# Altium footprint library hsbest.PcbLib: 389 footprints (part 6 of 25)
Each footprint in its own frame and in the unit in brackets; x right, y up, seen from the top. Pads: shape width x height; smd on the part's side, far side on the other; paste and mask are expansions set on the pad; w line width, h text height; cw(c..) or ccw(c..) is an arc to the next point about the centre after c.
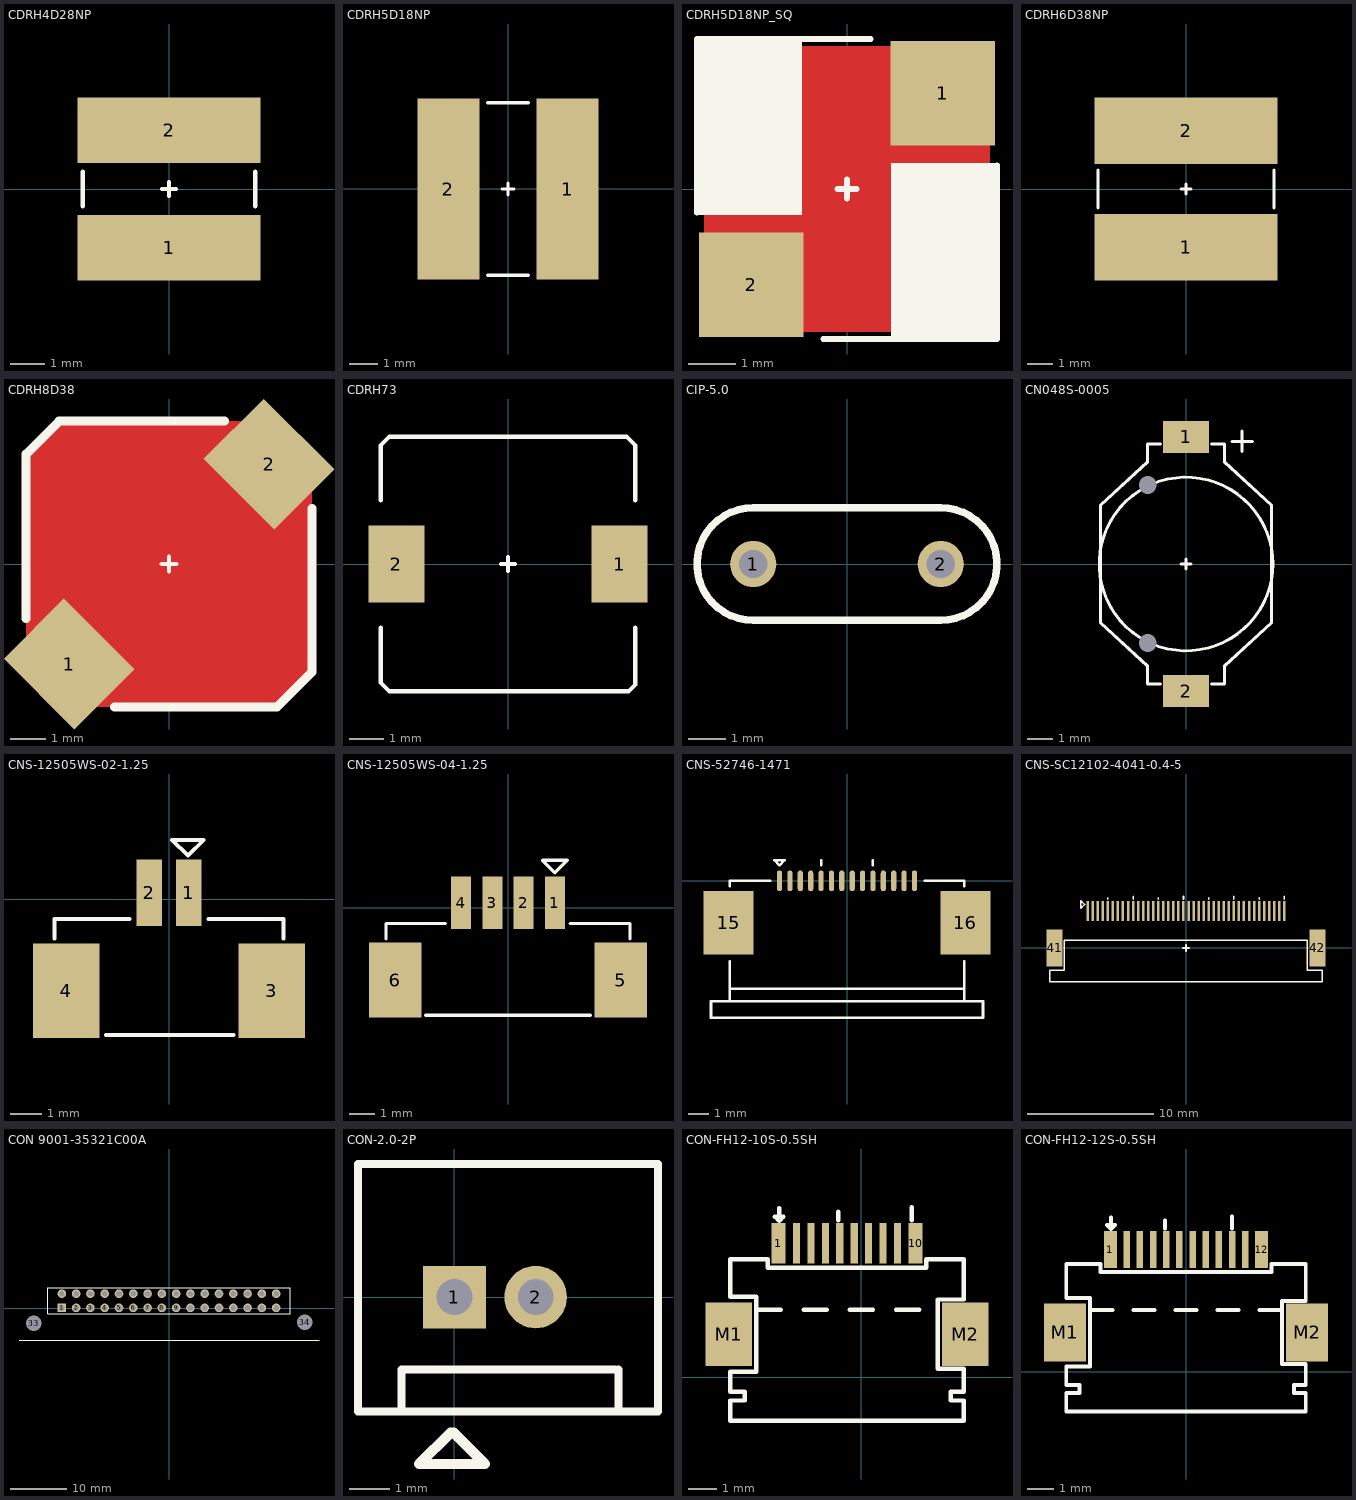
[diagram p5: the footprints below, top view; thin cyan lines are the x and y axes]

## CDRH4D28NP [mm]
pads (2):
  rect 5.3x1.9 smd: 1(0,-1.7) 2(0,1.7)
Top Overlay:
  lines w0.12: -2.5,-0.5 -2.5,0.5 ; -0.2,0 0.2,0 ; 0,-0.2 0,0.2 ; 2.5,-0.5 2.5,0.5

## CDRH5D18NP [mm]
pads (2):
  rect 2.15x6.3 smd: 1(2.075,0) 2(-2.075,0)
Top Overlay:
  lines w0.12: -0.7,-3 0.7,-3 ; -0.7,3 0.7,3 ; -0.2,0 0.2,0 ; 0,-0.2 0,0.2

## CDRH5D18NP_SQ [mm]
pads (2):
  rect 2.2x2.2 smd: 1(2.008,2.008) 2(-2.008,-2.008)
Top Layer:
  pour cut-out: -3,3 -3,-3 3,-3 3,3
Top Overlay:
  rectangle: 0.925,-3.15 3.15,0.55
  rectangle: -3.15,-0.55 -0.95,3.15
  lines w0.12: -3.15,-0.5 -3.15,3.15 0.5,3.15 ; -0.5,-3.15 3.15,-3.15 3.15,0.5 ; -0.2,0 0.2,0 ; 0,-0.2 0,0.2

## CDRH6D38NP [mm]
pads (2):
  rect 7.3x2.65 smd: 1(0,-2.325) 2(0,2.325)
Top Overlay:
  lines w0.12: -3.5,-0.75 -3.5,0.75 ; -0.2,0 0.2,0 ; 0,-0.2 0,0.2 ; 3.5,-0.75 3.5,0.75

## CDRH8D38 [mm]
pads (2):
  rect 2.4x2.8 smd rot 45: 1(-2.8,-2.8) 2(2.8,2.8)
Top Layer:
  pour cut-out: -3.075,4 -4,3.075 -4,-2.3 -2.3,-4 3.025,-4 4,-3.025 4,2.025 2.025,4
Top Overlay:
  lines w0.12: -0.2,0 0.2,0 ; 0,-0.2 0,0.2
  lines w0.254: -4,-1.525 -4,3.075 -3.075,4 1.55,4 ; -1.525,-4 3.025,-4 4,-3.025 4,1.55

## CDRH73 [mm]
pads (2):
  rect 1.6x2.2 smd: 1(3.2,0) 2(-3.2,0)
Top Overlay:
  lines w0.12: -3.65,-1.825 -3.65,-3.4 -3.4,-3.65 3.45,-3.65 3.65,-3.45 3.65,-1.825 ; -3.65,1.825 -3.65,3.4 -3.4,3.65 3.4,3.65 3.65,3.4 3.65,1.825 ; -0.2,0 0.2,0 ; 0,-0.2 0,0.2

## CIP-5.0 [mil]
pads (2):
  round 49.37 hole 30: 1(-100,0) 2(100,0)
Top Overlay:
  lines w7.87: -100,-60 cw(c-100,0) -100,60 100,60 cw(c100,0) 100,-60 -100,-60

## CN048S-0005 [mm]
pads (4):
  rect 1.8x1.25 smd: 1(0,4.975) 2(0,-4.975)
  round 0.1 hole 0.7 unplated: 3(-1.5,3.1) 4(-1.5,-3.1)
Top Overlay:
  circle w0.12: c0,0 r3.4
  lines w0.12: -1,-4.7 -1.5,-4.7 -1.5,-4 -3.35,-2.3 -3.35,2.3 -1.5,4 -1.5,4.7 -1,4.7 ; -0.2,0 0.2,0 ; 0,-0.2 0,0.2 ; 1,-4.7 1.5,-4.7 1.5,-4 3.35,-2.3 3.35,2.3 1.5,4 1.5,4.7 1,4.7 ; 1.8,4.8 2.6,4.8 ; 2.2,4.4 2.2,5.2

## CNS-12505WS-02-1.25 [mm]
pads (4):
  rect 0.8x2.1 smd: 1(0.625,0.2) 2(-0.625,0.2)
  rect 2.1x3 smd: 3(3.25,-2.9) 4(-3.25,-2.9)
Top Overlay:
  lines w0.125: -3.625,-1.25 -3.625,-0.625 -1.25,-0.625 ; -2,-4.3 2.05,-4.3 ; 1.25,-0.625 3.625,-0.625 3.625,-1.25 ; 0.1,1.875 1.1,1.875 0.6,1.375 0.1,1.875

## CNS-12505WS-04-1.25 [mm]
pads (6):
  rect 0.8x2.1 smd: 1(1.875,0.2) 2(0.625,0.2) 3(-0.625,0.2) 4(-1.875,0.2)
  rect 2.1x3 smd: 5(4.5,-2.9) 6(-4.5,-2.9)
Top Overlay:
  lines w0.125: -4.875,-1.25 -4.875,-0.625 -2.5,-0.625 ; -3.3,-4.3 3.3,-4.3 ; 2.475,-0.625 4.875,-0.625 4.875,-1.25 ; 1.375,1.9 1.875,1.4 2.375,1.9 1.375,1.9

## CNS-52746-1471 [mm]
pads (16):
  oval 0.25x1 smd: 1(-3.25,0) 2(-2.75,0) 3(-2.25,0) 4(-1.75,0) 5(-1.25,0) 6(-0.75,0) 7(-0.25,0) 8(0.25,0) 9(0.75,0) 10(1.25,0) 11(1.75,0) 12(2.25,0) 13(2.75,0) 14(3.25,0)
  rect 2.4x3.05 smd: 15(-5.7,-2.025) 16(5.7,-2.025)
Top Overlay:
  lines w0.125: -5.65,-5.8 -5.65,-5.2 -5.65,-3.875 ; -5.65,-0.25 -5.65,0 -3.7,0 ; -5.625,-5.2 5.65,-5.2 ; -1.25,0.75 -1.25,1 ; 1.25,0.75 1.25,1 ; 3.75,0 5.65,0 5.65,-0.25 ; 5.65,-5.8 5.65,-5.2 ; 5.65,-3.875 5.65,-5.2 ; -6.55,-6.6 -6.55,-5.8 6.55,-5.8 6.55,-6.6 -5.8,-6.6 -6.55,-6.6 ; -3.5,1 -3.25,0.75 -3,1 -3.5,1

## CNS-SC12102-4041-0.4-5 [mm]
pads (42):
  rect 0.2x1.6 smd: 1(-7.8,2.925) 2(-7.4,2.925) 3(-7,2.925) 4(-6.6,2.925) 5(-6.2,2.925) 6(-5.8,2.925) 7(-5.4,2.925) 8(-5,2.925) 9(-4.6,2.925) 10(-4.2,2.925) 11(-3.8,2.925) 12(-3.4,2.925) 13(-3,2.925) 14(-2.6,2.925) 15(-2.2,2.925) 16(-1.8,2.925) 17(-1.4,2.925) 18(-1,2.925) 19(-0.6,2.925) 20(-0.2,2.925) 21(0.2,2.925) 22(0.6,2.925) 23(1,2.925) 24(1.4,2.925) 25(1.8,2.925) 26(2.2,2.925) 27(2.6,2.925) 28(3,2.925) 29(3.4,2.925) 30(3.8,2.925) 31(4.2,2.925) 32(4.6,2.925) 33(5,2.925) 34(5.4,2.925) 35(5.8,2.925) 36(6.2,2.925) 37(6.6,2.925) 38(7,2.925) 39(7.4,2.925) 40(7.8,2.925)
  rect 1.25x2.95 smd: 41(-10.425,0) 42(10.425,0)
Top Overlay:
  lines w0.125: -6.2,3.85 -6.2,4 ; -4.2,3.85 -4.2,4.1 ; -2.2,3.85 -2.2,4 ; -0.25,0 0.25,0 ; -0.2,3.85 -0.2,4.1 ; 0,-0.25 0,0.25 ; 1.8,3.85 1.8,4 ; 3.8,3.85 3.8,4.1 ; 5.8,3.85 5.8,4 ; 7.8,3.85 7.8,4.1 ; -10.8,-2.675 -10.8,-1.775 -9.65,-1.775 -9.65,0.625 9.625,0.625 9.625,-1.775 10.8,-1.775 10.8,-2.675 -10.8,-2.675 ; -8.35,3.15 -8.35,3.75 -8.05,3.45 -8.35,3.15

## CON 9001-35321C00A [mil]
pads (34):
  rect 60x60 hole 40: 1(-751.57,3.35)
  round 60 hole 40: 2(-651.57,3.35) 3(-551.57,3.35) 4(-451.57,3.35) 5(-351.57,3.35) 6(-251.57,3.35) 7(-151.57,3.35) 8(-51.57,3.35) 9(48.43,3.35) 10(148.43,3.35) 11(248.43,3.35) 12(348.43,3.35) 13(448.43,3.35) 14(548.43,3.35) 15(648.43,3.35) 16(748.43,3.35) 17(-751.57,103.35) 18(-651.57,103.35) 19(-551.57,103.35) 20(-451.57,103.35) 21(-351.57,103.35) 22(-251.57,103.35) 23(-151.57,103.35) 24(-51.57,103.35) 25(48.43,103.35) 26(148.43,103.35) 27(248.43,103.35) 28(348.43,103.35) 29(448.43,103.35) 30(548.43,103.35) 31(648.43,103.35) 32(748.43,103.35)
  round 98.43 hole 110.24 unplated: 33(-948.43,-103.35) 34(948.43,-96.65)
Top Overlay:
  lines w5: -1051.57,-221.46 1048.43,-221.46 ; -851.57,-36.02 -851.57,142.72 848.43,142.72 848.43,-36.02 -851.57,-36.02

## CON-2.0-2P [mm]
pads (2):
  rect 1.54x1.54 hole 0.88: 1(0.002,0)
  round 1.54 hole 0.88: 2(2,0)
Top Overlay:
  lines w0.2: -1.3,-2.771 -1.3,-1.78 3.95,-1.78 ; 4.039,-2.754 4.039,-1.78 ; 5,-2.821 -2.375,-2.821 -2.375,3.275 5.013,3.275 5.013,-2.821
  lines w0.254: -0.094,-3.34 -0.864,-4.11 0.744,-4.11 -0.02,-3.345

## CON-FH12-10S-0.5SH [mm]
pads (12):
  rect 0.5x1.4 smd: 1(-2.875,4.65) 10(1.875,4.65)
  rect 0.25x1.4 smd: 2(-2.25,4.65) 3(-1.75,4.65) 4(-1.25,4.65) 5(-0.75,4.65) 6(-0.25,4.65) 7(0.25,4.65) 8(0.75,4.65) 9(1.25,4.65)
  rect 1.6x2.2 smd: M1(-4.6,1.5) M2(3.6,1.5)
Top Overlay:
  lines w0.15: -3.6,2.35 -2.8,2.35 ; -3.25,3.8 -3.25,4.1 -4.55,4.1 -4.55,2.8 -3.65,2.8 -3.65,0.2 -4.55,0.2 -4.55,-0.5 -4.05,-0.5 -4.05,-0.8 -4.55,-0.8 -4.55,-1.5 3.55,-1.5 3.55,-0.8 3.1,-0.8 3.1,-0.5 3.55,-0.5 3.55,0.3 2.65,0.3 2.65,2.7 3.55,2.7 3.55,4.1 2.25,4.1 2.25,3.8 -3.225,3.8 ; -2.85,5.875 -2.85,5.425 ; -2,2.35 -1.2,2.35 ; -0.8,5.45 -0.8,5.75 ; -0.4,2.35 0.4,2.35 ; 1.2,2.35 2,2.35 ; 1.75,5.45 1.75,5.9 ; -2.85,5.425 -2.7,5.575 -3,5.575 -2.85,5.425

## CON-FH12-12S-0.5SH [mm]
pads (14):
  rect 0.5x1.4 smd: 1(-2.875,4.65) 12(2.875,4.65)
  rect 0.25x1.4 smd: 2(-2.25,4.65) 3(-1.75,4.65) 4(-1.25,4.65) 5(-0.75,4.65) 6(-0.25,4.65) 7(0.25,4.65) 8(0.75,4.65) 9(1.25,4.65) 10(1.75,4.65) 11(2.25,4.65)
  rect 1.6x2.2 smd: M1(-4.6,1.5) M2(4.6,1.5)
Top Overlay:
  lines w0.15: -3.6,2.35 -2.8,2.35 ; -2.85,5.875 -2.85,5.425 ; -2,2.35 -1.2,2.35 ; -0.8,5.45 -0.8,5.75 ; -0.4,2.35 0.4,2.35 ; 1.2,2.35 2,2.35 ; 1.75,5.45 1.75,5.9 ; 2.8,2.35 3.6,2.35 ; -2.85,5.425 -3,5.575 -2.7,5.575 -2.85,5.425 ; -4.55,-1.5 4.55,-1.5 4.55,-0.8 4.1,-0.8 4.1,-0.5 4.55,-0.5 4.55,0.3 3.65,0.3 3.65,2.7 4.55,2.7 4.55,4.1 3.25,4.1 3.25,3.8 -3.25,3.8 -3.25,4.1 -4.55,4.1 -4.55,2.8 -3.65,2.8 -3.65,0.2 -4.55,0.2 -4.55,-0.5 -4.05,-0.5 -4.05,-0.8 -4.55,-0.8 -4.55,-1.5